# Altium integrated library Wuerth Elektronik SMD Power Choke.IntLib: 844 symbols (part 9 of 9)
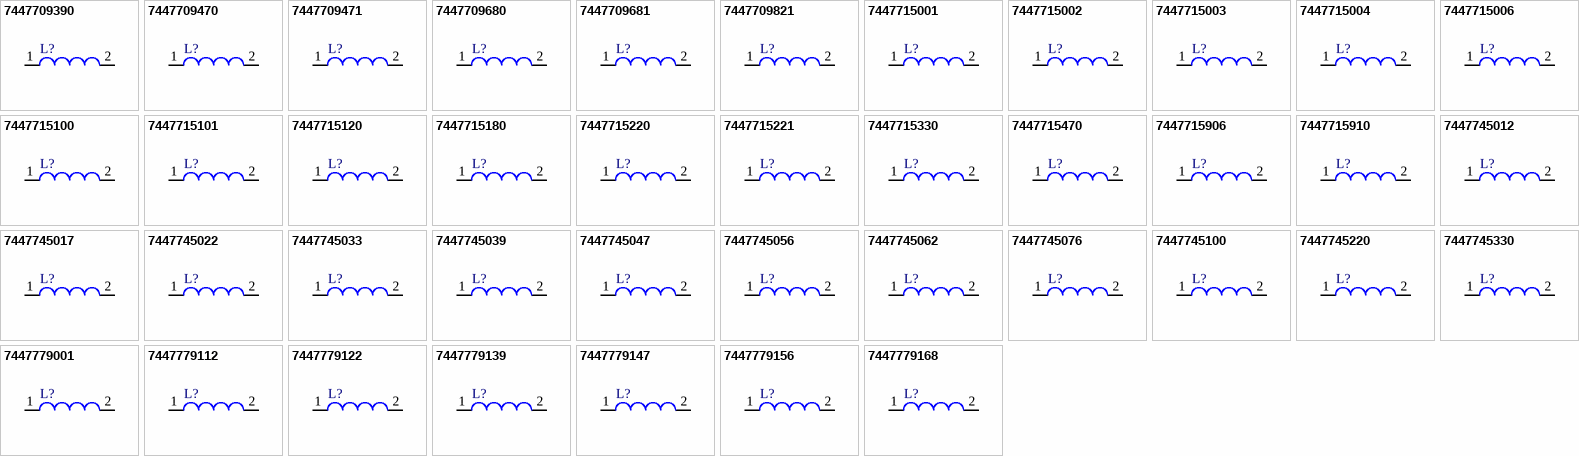
[diagram p30: symbols 7447709390 to 7447779168]

## 7447779147
designator L?
SMD-Shielded Power Inductor WE-PD, L = 47.0 µH; Inductance: 47.0 µH; DatasheetVersion: ver 10, Jan-2008; PackageVersion: 2008; PackageReference: WE-PD-M-PB; PackageDescription: SMD Inductor, 2-Leads, Body 7.3 x 7.3 mm; ComponentLink1Description: Manufacturer URL; ComponentLink1URL: http://www.we-online.com; ComponentLink2Description: Datasheet; ComponentLink2URL: http://www.we-online.de/katalog/media/pdf/7447779147.pdf
footprint WE-PD-M-PB (SMD Inductor, 2-Leads, Body 7.3x7.3x4.5 mm)
pins: 1, 2

## 7447779156
designator L?
SMD-Shielded Power Inductor WE-PD, L = 56.0 µH; Inductance: 56.0 µH; DatasheetVersion: ver 10, Jan-2008; PackageVersion: 2008; PackageReference: WE-PD-M-PB; PackageDescription: SMD Inductor, 2-Leads, Body 7.3 x 7.3 mm; ComponentLink1Description: Manufacturer URL; ComponentLink1URL: http://www.we-online.com; ComponentLink2Description: Datasheet; ComponentLink2URL: http://www.we-online.de/katalog/media/pdf/7447779156.pdf
footprint WE-PD-M-PB (SMD Inductor, 2-Leads, Body 7.3x7.3x4.5 mm)
pins: 1, 2

## 7447779168
designator L?
SMD-Shielded Power Inductor WE-PD, L = 68.0 µH; Inductance: 68.0 µH; DatasheetVersion: ver 10, Jan-2008; PackageVersion: 2008; PackageReference: WE-PD-M-PB; PackageDescription: SMD Inductor, 2-Leads, Body 7.3 x 7.3 mm; ComponentLink1Description: Manufacturer URL; ComponentLink1URL: http://www.we-online.com; ComponentLink2Description: Datasheet; ComponentLink2URL: http://www.we-online.de/katalog/media/pdf/7447779168.pdf
footprint WE-PD-M-PB (SMD Inductor, 2-Leads, Body 7.3x7.3x4.5 mm)
pins: 1, 2

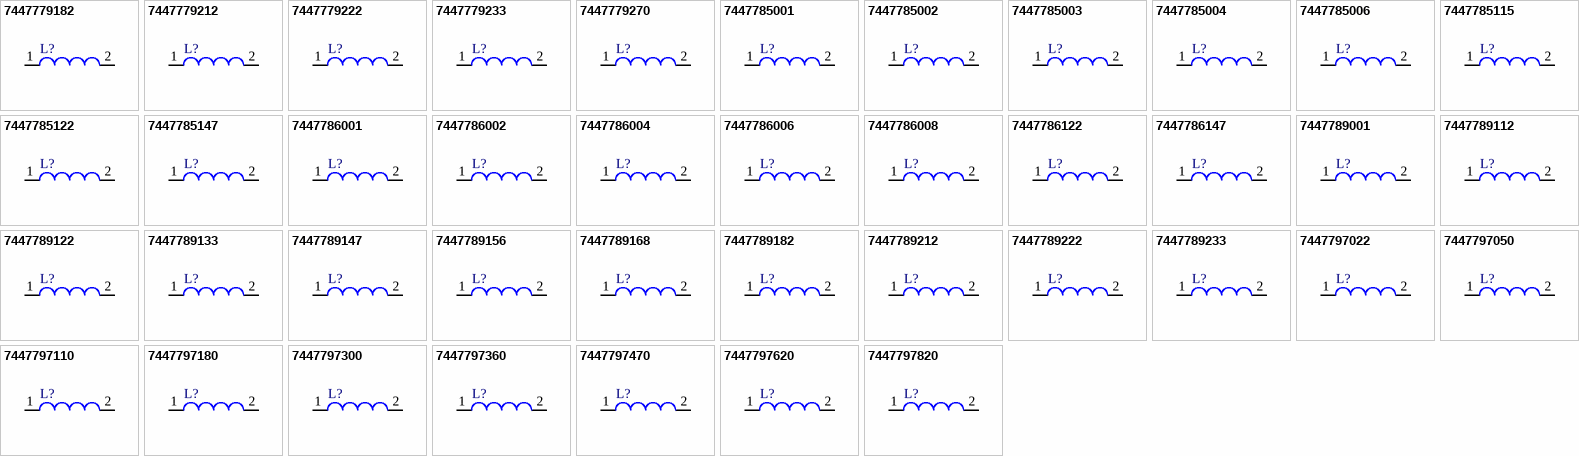
[diagram p20: symbols 7447779182 to 7447797820]

## 7447779182
designator L?
SMD-Shielded Power Inductor WE-PD, L = 82.0 µH; Inductance: 82.0 µH; DatasheetVersion: ver 10, Jan-2008; PackageVersion: 2008; PackageReference: WE-PD-M-PB; PackageDescription: SMD Inductor, 2-Leads, Body 7.3 x 7.3 mm; ComponentLink1Description: Manufacturer URL; ComponentLink1URL: http://www.we-online.com; ComponentLink2Description: Datasheet; ComponentLink2URL: http://www.we-online.de/katalog/media/pdf/7447779182.pdf
footprint WE-PD-M-PB (SMD Inductor, 2-Leads, Body 7.3x7.3x4.5 mm)
pins: 1, 2

## 7447779212
designator L?
SMD-Shielded Power Inductor WE-PD, L = 120 µH; Inductance: 120 µH; DatasheetVersion: ver 10, Jan-2008; PackageVersion: 2008; PackageReference: WE-PD-M-PB; PackageDescription: SMD Inductor, 2-Leads, Body 7.3 x 7.3 mm; ComponentLink1Description: Manufacturer URL; ComponentLink1URL: http://www.we-online.com; ComponentLink2Description: Datasheet; ComponentLink2URL: http://www.we-online.de/katalog/media/pdf/7447779212.pdf
footprint WE-PD-M-PB (SMD Inductor, 2-Leads, Body 7.3x7.3x4.5 mm)
pins: 1, 2

## 7447779222
designator L?
SMD-Shielded Power Inductor WE-PD, L = 220 µH; Inductance: 220 µH; DatasheetVersion: ver 10, Jan-2008; PackageVersion: 2008; PackageReference: WE-PD-M-PB; PackageDescription: SMD Inductor, 2-Leads, Body 7.3 x 7.3 mm; ComponentLink1Description: Manufacturer URL; ComponentLink1URL: http://www.we-online.com; ComponentLink2Description: Datasheet; ComponentLink2URL: http://www.we-online.de/katalog/media/pdf/7447779222.pdf
footprint WE-PD-M-PB (SMD Inductor, 2-Leads, Body 7.3x7.3x4.5 mm)
pins: 1, 2

## 7447779233
designator L?
SMD-Shielded Power Inductor WE-PD, L = 330 µH; Inductance: 330 µH; DatasheetVersion: ver 10, Jan-2008; PackageVersion: 2008; PackageReference: WE-PD-M-PB; PackageDescription: SMD Inductor, 2-Leads, Body 7.3 x 7.3 mm; ComponentLink1Description: Manufacturer URL; ComponentLink1URL: http://www.we-online.com; ComponentLink2Description: Datasheet; ComponentLink2URL: http://www.we-online.de/katalog/media/pdf/7447779233.pdf
footprint WE-PD-M-PB (SMD Inductor, 2-Leads, Body 7.3x7.3x4.5 mm)
pins: 1, 2

## 7447779270
designator L?
SMD-Shielded Power Inductor WE-PD, L = 270 µH; Inductance: 270 µH; DatasheetVersion: ver 10, Jan-2008; PackageVersion: 2008; PackageReference: WE-PD-M-PB; PackageDescription: SMD Inductor, 2-Leads, Body 7.3 x 7.3 mm; ComponentLink1Description: Manufacturer URL; ComponentLink1URL: http://www.we-online.com; ComponentLink2Description: Datasheet; ComponentLink2URL: http://www.we-online.de/katalog/media/pdf/7447779270.pdf
footprint WE-PD-M-PB (SMD Inductor, 2-Leads, Body 7.3x7.3x4.5 mm)
pins: 1, 2

## 7447785001
designator L?
SMD-Shielded Power Inductor WE-PD, L = 1.00 µH; Inductance: 1.00 µH; DatasheetVersion: ver 2, Oct-2004; PackageVersion: 2004; PackageReference: WE-PD-XS-PB; PackageDescription: SMD Inductor, 2-Leads, Body 5.9 x 6.2 mm; ComponentLink1Description: Manufacturer URL; ComponentLink1URL: http://www.we-online.com; ComponentLink2Description: Datasheet; ComponentLink2URL: http://www.we-online.de/katalog/media/pdf/7447785001.pdf
footprint WE-PD-XS-PB (SMD Inductor, 2-Leads, Body 5.9x6.2x3.3 mm)
pins: 1, 2

## 7447785002
designator L?
SMD-Shielded Power Inductor WE-PD, L = 2.20 µH; Inductance: 2.20 µH; DatasheetVersion: ver 2, Oct-2004; PackageVersion: 2004; PackageReference: WE-PD-XS-PB; PackageDescription: SMD Inductor, 2-Leads, Body 5.9 x 6.2 mm; ComponentLink1Description: Manufacturer URL; ComponentLink1URL: http://www.we-online.com; ComponentLink2Description: Datasheet; ComponentLink2URL: http://www.we-online.de/katalog/media/pdf/7447785002.pdf
footprint WE-PD-XS-PB (SMD Inductor, 2-Leads, Body 5.9x6.2x3.3 mm)
pins: 1, 2

## 7447785003
designator L?
SMD-Shielded Power Inductor WE-PD, L = 3.30 µH; Inductance: 3.30 µH; DatasheetVersion: ver 1, Nov-2005; PackageVersion: 2004; PackageReference: WE-PD-XS-PB; PackageDescription: SMD Inductor, 2-Leads, Body 5.9 x 6.2 mm; ComponentLink1Description: Manufacturer URL; ComponentLink1URL: http://www.we-online.com; ComponentLink2Description: Datasheet; ComponentLink2URL: http://www.we-online.de/katalog/media/pdf/7447785003.pdf
footprint WE-PD-XS-PB (SMD Inductor, 2-Leads, Body 5.9x6.2x3.3 mm)
pins: 1, 2

## 7447785004
designator L?
SMD-Shielded Power Inductor WE-PD, L = 4.70 µH; Inductance: 4.70 µH; DatasheetVersion: ver 2, Oct-2004; PackageVersion: 2004; PackageReference: WE-PD-XS-PB; PackageDescription: SMD Inductor, 2-Leads, Body 5.9 x 6.2 mm; ComponentLink1Description: Manufacturer URL; ComponentLink1URL: http://www.we-online.com; ComponentLink2Description: Datasheet; ComponentLink2URL: http://www.we-online.de/katalog/media/pdf/7447785004.pdf
footprint WE-PD-XS-PB (SMD Inductor, 2-Leads, Body 5.9x6.2x3.3 mm)
pins: 1, 2

## 7447785006
designator L?
SMD-Shielded Power Inductor WE-PD, L = 6.80 µH; Inductance: 6.80 µH; DatasheetVersion: ver 4, Sep-2005; PackageVersion: 2004; PackageReference: WE-PD-XS-PB; PackageDescription: SMD Inductor, 2-Leads, Body 5.9 x 6.2 mm; ComponentLink1Description: Manufacturer URL; ComponentLink1URL: http://www.we-online.com; ComponentLink2Description: Datasheet; ComponentLink2URL: http://www.we-online.de/katalog/media/pdf/7447785006.pdf
footprint WE-PD-XS-PB (SMD Inductor, 2-Leads, Body 5.9x6.2x3.3 mm)
pins: 1, 2

## 7447785115
designator L?
SMD-Shielded Power Inductor WE-PD, L = 15.0 µH; Inductance: 15.0 µH; DatasheetVersion: ver 1, Sep-2005; PackageVersion: 2004; PackageReference: WE-PD-XS-PB; PackageDescription: SMD Inductor, 2-Leads, Body 5.9 x 6.2 mm; ComponentLink1Description: Manufacturer URL; ComponentLink1URL: http://www.we-online.com; ComponentLink2Description: Datasheet; ComponentLink2URL: http://www.we-online.de/katalog/media/pdf/7447785115.pdf
footprint WE-PD-XS-PB (SMD Inductor, 2-Leads, Body 5.9x6.2x3.3 mm)
pins: 1, 2

## 7447785122
designator L?
SMD-Shielded Power Inductor WE-PD, L = 22.0 µH; Inductance: 22.0 µH; DatasheetVersion: ver 2, Oct-2004; PackageVersion: 2004; PackageReference: WE-PD-XS-PB; PackageDescription: SMD Inductor, 2-Leads, Body 5.9 x 6.2 mm; ComponentLink1Description: Manufacturer URL; ComponentLink1URL: http://www.we-online.com; ComponentLink2Description: Datasheet; ComponentLink2URL: http://www.we-online.de/katalog/media/pdf/7447785122.pdf
footprint WE-PD-XS-PB (SMD Inductor, 2-Leads, Body 5.9x6.2x3.3 mm)
pins: 1, 2

## 7447785147
designator L?
SMD-Shielded Power Inductor WE-PD, L = 47.0 µH; Inductance: 47.0 µH; DatasheetVersion: ver 2, Oct-2004; PackageVersion: 2004; PackageReference: WE-PD-XS-PB; PackageDescription: SMD Inductor, 2-Leads, Body 5.9 x 6.2 mm; ComponentLink1Description: Manufacturer URL; ComponentLink1URL: http://www.we-online.com; ComponentLink2Description: Datasheet; ComponentLink2URL: http://www.we-online.de/katalog/media/pdf/7447785147.pdf
footprint WE-PD-XS-PB (SMD Inductor, 2-Leads, Body 5.9x6.2x3.3 mm)
pins: 1, 2

## 7447786001
designator L?
SMD-Shielded Power Inductor WE-PD, L = 1.00 µH; Inductance: 1.00 µH; DatasheetVersion: ver 1, Sep-2008; PackageVersion: 2008; PackageReference: WE-PD-XSH-PB; PackageDescription: SMD Inductor, 2-Leads, Body 5.9 x 6.2 mm; ComponentLink1Description: Manufacturer URL; ComponentLink1URL: http://www.we-online.com; ComponentLink2Description: Datasheet; ComponentLink2URL: http://www.we-online.de/katalog/media/pdf/7447786001.pdf
footprint WE-PD-XSH-PB (SMD Inductor, 2-Leads, Body 5.9x6.2x5.1 mm)
pins: 1, 2

## 7447786002
designator L?
SMD-Shielded Power Inductor WE-PD, L = 2.20 µH; Inductance: 2.20 µH; DatasheetVersion: ver 1, Sep-2008; PackageVersion: 2008; PackageReference: WE-PD-XSH-PB; PackageDescription: SMD Inductor, 2-Leads, Body 5.9 x 6.2 mm; ComponentLink1Description: Manufacturer URL; ComponentLink1URL: http://www.we-online.com; ComponentLink2Description: Datasheet; ComponentLink2URL: http://www.we-online.de/katalog/media/pdf/7447786002.pdf
footprint WE-PD-XSH-PB (SMD Inductor, 2-Leads, Body 5.9x6.2x5.1 mm)
pins: 1, 2

## 7447786004
designator L?
SMD-Shielded Power Inductor WE-PD, L = 4.70 µH; Inductance: 4.70 µH; DatasheetVersion: ver 1, Sep-2008; PackageVersion: 2008; PackageReference: WE-PD-XSH-PB; PackageDescription: SMD Inductor, 2-Leads, Body 5.9 x 6.2 mm; ComponentLink1Description: Manufacturer URL; ComponentLink1URL: http://www.we-online.com; ComponentLink2Description: Datasheet; ComponentLink2URL: http://www.we-online.de/katalog/media/pdf/7447786004.pdf
footprint WE-PD-XSH-PB (SMD Inductor, 2-Leads, Body 5.9x6.2x5.1 mm)
pins: 1, 2

## 7447786006
designator L?
SMD-Shielded Power Inductor WE-PD, L = 6.80 µH; Inductance: 6.80 µH; DatasheetVersion: ver 1, Sep-2008; PackageVersion: 2008; PackageReference: WE-PD-XSH-PB; PackageDescription: SMD Inductor, 2-Leads, Body 5.9 x 6.2 mm; ComponentLink1Description: Manufacturer URL; ComponentLink1URL: http://www.we-online.com; ComponentLink2Description: Datasheet; ComponentLink2URL: http://www.we-online.de/katalog/media/pdf/7447786006.pdf
footprint WE-PD-XSH-PB (SMD Inductor, 2-Leads, Body 5.9x6.2x5.1 mm)
pins: 1, 2

## 7447786008
designator L?
SMD-Shielded Power Inductor WE-PD, L = 8.20 µH; Inductance: 8.20 µH; DatasheetVersion: ver 1, Sep-2008; PackageVersion: 2008; PackageReference: WE-PD-XSH-PB; PackageDescription: SMD Inductor, 2-Leads, Body 5.9 x 6.2 mm; ComponentLink1Description: Manufacturer URL; ComponentLink1URL: http://www.we-online.com; ComponentLink2Description: Datasheet; ComponentLink2URL: http://www.we-online.de/katalog/media/pdf/7447786008.pdf
footprint WE-PD-XSH-PB (SMD Inductor, 2-Leads, Body 5.9x6.2x5.1 mm)
pins: 1, 2

## 7447786122
designator L?
SMD-Shielded Power Inductor WE-PD, L = 22.0 µH; Inductance: 22.0 µH; DatasheetVersion: ver 1, Sep-2008; PackageVersion: 2008; PackageReference: WE-PD-XSH-PB; PackageDescription: SMD Inductor, 2-Leads, Body 5.9 x 6.2 mm; ComponentLink1Description: Manufacturer URL; ComponentLink1URL: http://www.we-online.com; ComponentLink2Description: Datasheet; ComponentLink2URL: http://www.we-online.de/katalog/media/pdf/7447786122.pdf
footprint WE-PD-XSH-PB (SMD Inductor, 2-Leads, Body 5.9x6.2x5.1 mm)
pins: 1, 2

## 7447786147
designator L?
SMD-Shielded Power Inductor WE-PD, L = 47.0 µH; Inductance: 47.0 µH; DatasheetVersion: ver 1, Sep-2008; PackageVersion: 2008; PackageReference: WE-PD-XSH-PB; PackageDescription: SMD Inductor, 2-Leads, Body 5.9 x 6.2 mm; ComponentLink1Description: Manufacturer URL; ComponentLink1URL: http://www.we-online.com; ComponentLink2Description: Datasheet; ComponentLink2URL: http://www.we-online.de/katalog/media/pdf/7447786147.pdf
footprint WE-PD-XSH-PB (SMD Inductor, 2-Leads, Body 5.9x6.2x5.1 mm)
pins: 1, 2

## 7447789001
designator L?
SMD-Shielded Power Inductor WE-PD, L = 1.00 µH; Inductance: 1.00 µH; DatasheetVersion: ver 5, Jan-2006; PackageVersion: 2006; PackageReference: WE-PD-S-PB; PackageDescription: SMD Inductor, 2-Leads, Body 7.3 x 7.3 mm; ComponentLink1Description: Manufacturer URL; ComponentLink1URL: http://www.we-online.com; ComponentLink2Description: Datasheet; ComponentLink2URL: http://www.we-online.de/katalog/media/pdf/7447789001.pdf
footprint WE-PD-S-PB (SMD Inductor, 2-Leads, Body 7.3x7.3x3.5 mm)
pins: 1, 2

## 7447789112
designator L?
SMD-Shielded Power Inductor WE-PD, L = 12.0 µH; Inductance: 12.0 µH; DatasheetVersion: ver 5, Jan-2006; PackageVersion: 2006; PackageReference: WE-PD-S-PB; PackageDescription: SMD Inductor, 2-Leads, Body 7.3 x 7.3 mm; ComponentLink1Description: Manufacturer URL; ComponentLink1URL: http://www.we-online.com; ComponentLink2Description: Datasheet; ComponentLink2URL: http://www.we-online.de/katalog/media/pdf/7447789112.pdf
footprint WE-PD-S-PB (SMD Inductor, 2-Leads, Body 7.3x7.3x3.5 mm)
pins: 1, 2

## 7447789122
designator L?
SMD-Shielded Power Inductor WE-PD, L = 22.0 µH; Inductance: 22.0 µH; DatasheetVersion: ver 5, Jan-2006; PackageVersion: 2006; PackageReference: WE-PD-S-PB; PackageDescription: SMD Inductor, 2-Leads, Body 7.3 x 7.3 mm; ComponentLink1Description: Manufacturer URL; ComponentLink1URL: http://www.we-online.com; ComponentLink2Description: Datasheet; ComponentLink2URL: http://www.we-online.de/katalog/media/pdf/7447789122.pdf
footprint WE-PD-S-PB (SMD Inductor, 2-Leads, Body 7.3x7.3x3.5 mm)
pins: 1, 2

## 7447789133
designator L?
SMD-Shielded Power Inductor WE-PD, L = 33.0 µH; Inductance: 33.0 µH; DatasheetVersion: ver 5, Jan-2006; PackageVersion: 2006; PackageReference: WE-PD-S-PB; PackageDescription: SMD Inductor, 2-Leads, Body 7.3 x 7.3 mm; ComponentLink1Description: Manufacturer URL; ComponentLink1URL: http://www.we-online.com; ComponentLink2Description: Datasheet; ComponentLink2URL: http://www.we-online.de/katalog/media/pdf/7447789133.pdf
footprint WE-PD-S-PB (SMD Inductor, 2-Leads, Body 7.3x7.3x3.5 mm)
pins: 1, 2

## 7447789147
designator L?
SMD-Shielded Power Inductor WE-PD, L = 47.0 µH; Inductance: 47.0 µH; DatasheetVersion: ver 5, Jan-2006; PackageVersion: 2006; PackageReference: WE-PD-S-PB; PackageDescription: SMD Inductor, 2-Leads, Body 7.3 x 7.3 mm; ComponentLink1Description: Manufacturer URL; ComponentLink1URL: http://www.we-online.com; ComponentLink2Description: Datasheet; ComponentLink2URL: http://www.we-online.de/katalog/media/pdf/7447789147.pdf
footprint WE-PD-S-PB (SMD Inductor, 2-Leads, Body 7.3x7.3x3.5 mm)
pins: 1, 2

## 7447789156
designator L?
SMD-Shielded Power Inductor WE-PD, L = 56.0 µH; Inductance: 56.0 µH; DatasheetVersion: ver 5, Jan-2006; PackageVersion: 2006; PackageReference: WE-PD-S-PB; PackageDescription: SMD Inductor, 2-Leads, Body 7.3 x 7.3 mm; ComponentLink1Description: Manufacturer URL; ComponentLink1URL: http://www.we-online.com; ComponentLink2Description: Datasheet; ComponentLink2URL: http://www.we-online.de/katalog/media/pdf/7447789156.pdf
footprint WE-PD-S-PB (SMD Inductor, 2-Leads, Body 7.3x7.3x3.5 mm)
pins: 1, 2

## 7447789168
designator L?
SMD-Shielded Power Inductor WE-PD, L = 68.0 µH; Inductance: 68.0 µH; DatasheetVersion: ver 5, Jan-2006; PackageVersion: 2006; PackageReference: WE-PD-S-PB; PackageDescription: SMD Inductor, 2-Leads, Body 7.3 x 7.3 mm; ComponentLink1Description: Manufacturer URL; ComponentLink1URL: http://www.we-online.com; ComponentLink2Description: Datasheet; ComponentLink2URL: http://www.we-online.de/katalog/media/pdf/7447789168.pdf
footprint WE-PD-S-PB (SMD Inductor, 2-Leads, Body 7.3x7.3x3.5 mm)
pins: 1, 2

## 7447789182
designator L?
SMD-Shielded Power Inductor WE-PD, L = 82.0 µH; Inductance: 82.0 µH; DatasheetVersion: ver 5, Jan-2006; PackageVersion: 2006; PackageReference: WE-PD-S-PB; PackageDescription: SMD Inductor, 2-Leads, Body 7.3 x 7.3 mm; ComponentLink1Description: Manufacturer URL; ComponentLink1URL: http://www.we-online.com; ComponentLink2Description: Datasheet; ComponentLink2URL: http://www.we-online.de/katalog/media/pdf/7447789182.pdf
footprint WE-PD-S-PB (SMD Inductor, 2-Leads, Body 7.3x7.3x3.5 mm)
pins: 1, 2

## 7447789212
designator L?
SMD-Shielded Power Inductor WE-PD, L = 120 µH; Inductance: 120 µH; DatasheetVersion: ver 5, Jan-2006; PackageVersion: 2006; PackageReference: WE-PD-S-PB; PackageDescription: SMD Inductor, 2-Leads, Body 7.3 x 7.3 mm; ComponentLink1Description: Manufacturer URL; ComponentLink1URL: http://www.we-online.com; ComponentLink2Description: Datasheet; ComponentLink2URL: http://www.we-online.de/katalog/media/pdf/7447789212.pdf
footprint WE-PD-S-PB (SMD Inductor, 2-Leads, Body 7.3x7.3x3.5 mm)
pins: 1, 2

## 7447789222
designator L?
SMD-Shielded Power Inductor WE-PD, L = 220 µH; Inductance: 220 µH; DatasheetVersion: ver 5, Jan-2006; PackageVersion: 2006; PackageReference: WE-PD-S-PB; PackageDescription: SMD Inductor, 2-Leads, Body 7.3 x 7.3 mm; ComponentLink1Description: Manufacturer URL; ComponentLink1URL: http://www.we-online.com; ComponentLink2Description: Datasheet; ComponentLink2URL: http://www.we-online.de/katalog/media/pdf/7447789222.pdf
footprint WE-PD-S-PB (SMD Inductor, 2-Leads, Body 7.3x7.3x3.5 mm)
pins: 1, 2

## 7447789233
designator L?
SMD-Shielded Power Inductor WE-PD, L = 330 µH; Inductance: 330 µH; DatasheetVersion: ver 5, Jan-2006; PackageVersion: 2006; PackageReference: WE-PD-S-PB; PackageDescription: SMD Inductor, 2-Leads, Body 7.3 x 7.3 mm; ComponentLink1Description: Manufacturer URL; ComponentLink1URL: http://www.we-online.com; ComponentLink2Description: Datasheet; ComponentLink2URL: http://www.we-online.de/katalog/media/pdf/7447789233.pdf
footprint WE-PD-S-PB (SMD Inductor, 2-Leads, Body 7.3x7.3x3.5 mm)
pins: 1, 2

## 7447797022
designator L?
SMD Power Inductor WE-PDF, L = 0.22 µH; Inductance: 0.22 µH; DatasheetVersion: ver 2, Jul-2009; PackageVersion: 2009; PackageReference: WE-PDF-1045; PackageDescription: SMD Inductor, 2-Leads, Body 10.2 x 10.2 mm; ComponentLink1Description: Manufacturer URL; ComponentLink1URL: http://www.we-online.com; ComponentLink2Description: Datasheet; ComponentLink2URL: http://www.we-online.de/katalog/media/pdf/7447797022.pdf
footprint WE-PDF-1045 (SMD Inductor, 2-Leads, Body 10.2x10.2x4.5 mm)
pins: 1, 2

## 7447797050
designator L?
SMD Power Inductor WE-PDF, L = 0.50 µH; Inductance: 0.50 µH; DatasheetVersion: ver 2, Jul-2009; PackageVersion: 2009; PackageReference: WE-PDF-1045; PackageDescription: SMD Inductor, 2-Leads, Body 10.2 x 10.2 mm; ComponentLink1Description: Manufacturer URL; ComponentLink1URL: http://www.we-online.com; ComponentLink2Description: Datasheet; ComponentLink2URL: http://www.we-online.de/katalog/media/pdf/7447797050.pdf
footprint WE-PDF-1045 (SMD Inductor, 2-Leads, Body 10.2x10.2x4.5 mm)
pins: 1, 2

## 7447797110
designator L?
SMD Power Inductor WE-PDF, L = 1.10 µH; Inductance: 1.10 µH; DatasheetVersion: ver 2, Jul-2009; PackageVersion: 2009; PackageReference: WE-PDF-1045; PackageDescription: SMD Inductor, 2-Leads, Body 10.2 x 10.2 mm; ComponentLink1Description: Manufacturer URL; ComponentLink1URL: http://www.we-online.com; ComponentLink2Description: Datasheet; ComponentLink2URL: http://www.we-online.de/katalog/media/pdf/7447797110.pdf
footprint WE-PDF-1045 (SMD Inductor, 2-Leads, Body 10.2x10.2x4.5 mm)
pins: 1, 2

## 7447797180
designator L?
SMD Power Inductor WE-PDF, L = 1.80 µH; Inductance: 1.80 µH; DatasheetVersion: ver 2, Jul-2009; PackageVersion: 2009; PackageReference: WE-PDF-1045; PackageDescription: SMD Inductor, 2-Leads, Body 10.2 x 10.2 mm; ComponentLink1Description: Manufacturer URL; ComponentLink1URL: http://www.we-online.com; ComponentLink2Description: Datasheet; ComponentLink2URL: http://www.we-online.de/katalog/media/pdf/7447797180.pdf
footprint WE-PDF-1045 (SMD Inductor, 2-Leads, Body 10.2x10.2x4.5 mm)
pins: 1, 2

## 7447797300
designator L?
SMD Power Inductor WE-PDF, L = 3.00 µH; Inductance: 3.00 µH; DatasheetVersion: ver 2, Jul-2009; PackageVersion: 2009; PackageReference: WE-PDF-1045; PackageDescription: SMD Inductor, 2-Leads, Body 10.2 x 10.2 mm; ComponentLink1Description: Manufacturer URL; ComponentLink1URL: http://www.we-online.com; ComponentLink2Description: Datasheet; ComponentLink2URL: http://www.we-online.de/katalog/media/pdf/7447797300.pdf
footprint WE-PDF-1045 (SMD Inductor, 2-Leads, Body 10.2x10.2x4.5 mm)
pins: 1, 2

## 7447797360
designator L?
SMD Power Inductor WE-PDF, L = 3.60 µH; Inductance: 3.60 µH; DatasheetVersion: ver 2, Jul-2009; PackageVersion: 2009; PackageReference: WE-PDF-1045; PackageDescription: SMD Inductor, 2-Leads, Body 10.2 x 10.2 mm; ComponentLink1Description: Manufacturer URL; ComponentLink1URL: http://www.we-online.com; ComponentLink2Description: Datasheet; ComponentLink2URL: http://www.we-online.de/katalog/media/pdf/7447797360.pdf
footprint WE-PDF-1045 (SMD Inductor, 2-Leads, Body 10.2x10.2x4.5 mm)
pins: 1, 2

## 7447797470
designator L?
SMD Power Inductor WE-PDF, L = 4.70 µH; Inductance: 4.70 µH; DatasheetVersion: ver 2, Jul-2009; PackageVersion: 2009; PackageReference: WE-PDF-1045; PackageDescription: SMD Inductor, 2-Leads, Body 10.2 x 10.2 mm; ComponentLink1Description: Manufacturer URL; ComponentLink1URL: http://www.we-online.com; ComponentLink2Description: Datasheet; ComponentLink2URL: http://www.we-online.de/katalog/media/pdf/7447797470.pdf
footprint WE-PDF-1045 (SMD Inductor, 2-Leads, Body 10.2x10.2x4.5 mm)
pins: 1, 2

## 7447797620
designator L?
SMD Power Inductor WE-PDF, L = 6.20 µH; Inductance: 6.20 µH; DatasheetVersion: ver 2, Jul-2009; PackageVersion: 2009; PackageReference: WE-PDF-1045; PackageDescription: SMD Inductor, 2-Leads, Body 10.2 x 10.2 mm; ComponentLink1Description: Manufacturer URL; ComponentLink1URL: http://www.we-online.com; ComponentLink2Description: Datasheet; ComponentLink2URL: http://www.we-online.de/katalog/media/pdf/7447797620.pdf
footprint WE-PDF-1045 (SMD Inductor, 2-Leads, Body 10.2x10.2x4.5 mm)
pins: 1, 2

## 7447797820
designator L?
SMD Power Inductor WE-PDF, L = 8.20 µH; Inductance: 8.20 µH; DatasheetVersion: ver 2, Jul-2009; PackageVersion: 2009; PackageReference: WE-PDF-1045; PackageDescription: SMD Inductor, 2-Leads, Body 10.2 x 10.2 mm; ComponentLink1Description: Manufacturer URL; ComponentLink1URL: http://www.we-online.com; ComponentLink2Description: Datasheet; ComponentLink2URL: http://www.we-online.de/katalog/media/pdf/7447797820.pdf
footprint WE-PDF-1045 (SMD Inductor, 2-Leads, Body 10.2x10.2x4.5 mm)
pins: 1, 2

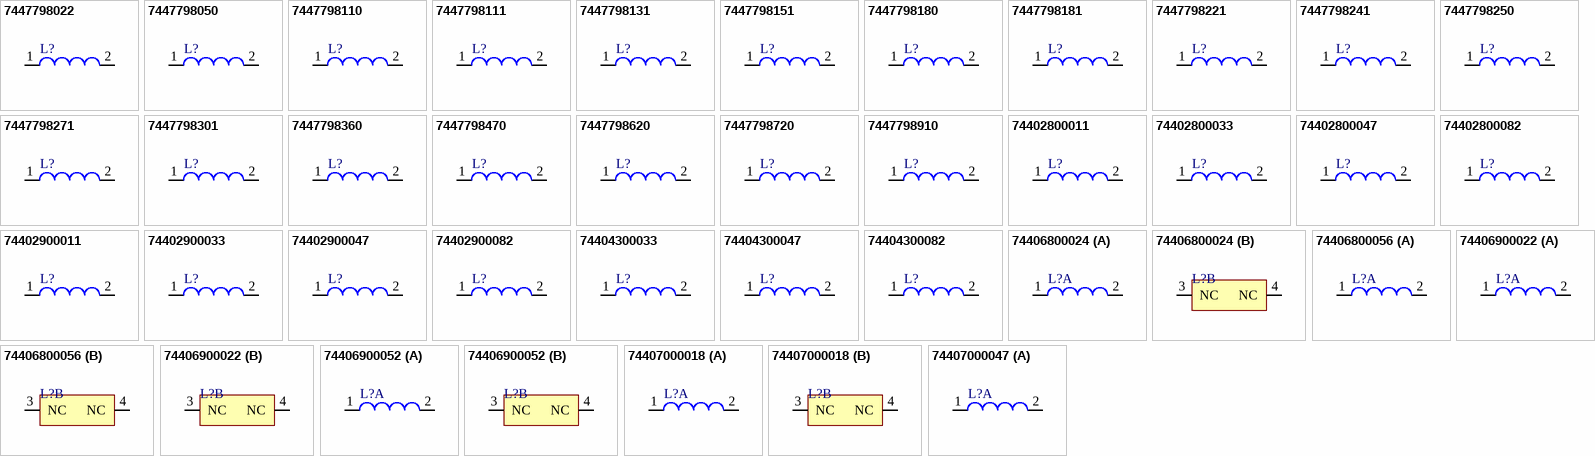
[diagram p21: symbols 7447798022 to 74407000047]

## 7447798022
designator L?
SMD Power Inductor WE-PDF, L = 0.22 µH; Inductance: 0.22 µH; DatasheetVersion: ver 1, Dec-2009; PackageVersion: 2009; PackageReference: WE-PDF-1064; PackageDescription: SMD Inductor, 2-Leads, Body 10.2 x 10.2 mm; ComponentLink1Description: Manufacturer URL; ComponentLink1URL: http://www.we-online.com; ComponentLink2Description: Datasheet; ComponentLink2URL: http://www.we-online.de/katalog/media/pdf/7447798022.pdf
footprint WE-PDF-1064 (SMD Inductor, 2-Leads, Body 10.2x10.2x6.4 mm)
pins: 1, 2

## 7447798050
designator L?
SMD Power Inductor WE-PDF, L = 0.50 µH; Inductance: 0.50 µH; DatasheetVersion: ver 1, Dec-2009; PackageVersion: 2009; PackageReference: WE-PDF-1064; PackageDescription: SMD Inductor, 2-Leads, Body 10.2 x 10.2 mm; ComponentLink1Description: Manufacturer URL; ComponentLink1URL: http://www.we-online.com; ComponentLink2Description: Datasheet; ComponentLink2URL: http://www.we-online.de/katalog/media/pdf/7447798050.pdf
footprint WE-PDF-1064 (SMD Inductor, 2-Leads, Body 10.2x10.2x6.4 mm)
pins: 1, 2

## 7447798110
designator L?
SMD Power Inductor WE-PDF, L = 1.10 µH; Inductance: 1.10 µH; DatasheetVersion: ver 1, Dec-2009; PackageVersion: 2009; PackageReference: WE-PDF-1064; PackageDescription: SMD Inductor, 2-Leads, Body 10.2 x 10.2 mm; ComponentLink1Description: Manufacturer URL; ComponentLink1URL: http://www.we-online.com; ComponentLink2Description: Datasheet; ComponentLink2URL: http://www.we-online.de/katalog/media/pdf/7447798110.pdf
footprint WE-PDF-1064 (SMD Inductor, 2-Leads, Body 10.2x10.2x6.4 mm)
pins: 1, 2

## 7447798111
designator L?
SMD Power Inductor WE-PDF, L = 11.0 µH; Inductance: 11.0 µH; DatasheetVersion: ver 1, Dec-2009; PackageVersion: 2009; PackageReference: WE-PDF-1064; PackageDescription: SMD Inductor, 2-Leads, Body 10.2 x 10.2 mm; ComponentLink1Description: Manufacturer URL; ComponentLink1URL: http://www.we-online.com; ComponentLink2Description: Datasheet; ComponentLink2URL: http://www.we-online.de/katalog/media/pdf/7447798111.pdf
footprint WE-PDF-1064 (SMD Inductor, 2-Leads, Body 10.2x10.2x6.4 mm)
pins: 1, 2

## 7447798131
designator L?
SMD Power Inductor WE-PDF, L = 13.0 µH; Inductance: 13.0 µH; DatasheetVersion: ver 1, Dec-2009; PackageVersion: 2009; PackageReference: WE-PDF-1064; PackageDescription: SMD Inductor, 2-Leads, Body 10.2 x 10.2 mm; ComponentLink1Description: Manufacturer URL; ComponentLink1URL: http://www.we-online.com; ComponentLink2Description: Datasheet; ComponentLink2URL: http://www.we-online.de/katalog/media/pdf/7447798131.pdf
footprint WE-PDF-1064 (SMD Inductor, 2-Leads, Body 10.2x10.2x6.4 mm)
pins: 1, 2

## 7447798151
designator L?
SMD Power Inductor WE-PDF, L = 15.0 µH; Inductance: 15.0 µH; DatasheetVersion: ver 1, Dec-2009; PackageVersion: 2009; PackageReference: WE-PDF-1064; PackageDescription: SMD Inductor, 2-Leads, Body 10.2 x 10.2 mm; ComponentLink1Description: Manufacturer URL; ComponentLink1URL: http://www.we-online.com; ComponentLink2Description: Datasheet; ComponentLink2URL: http://www.we-online.de/katalog/media/pdf/7447798151.pdf
footprint WE-PDF-1064 (SMD Inductor, 2-Leads, Body 10.2x10.2x6.4 mm)
pins: 1, 2

## 7447798180
designator L?
SMD Power Inductor WE-PDF, L = 1.80 µH; Inductance: 1.80 µH; DatasheetVersion: ver 1, Dec-2009; PackageVersion: 2009; PackageReference: WE-PDF-1064; PackageDescription: SMD Inductor, 2-Leads, Body 10.2 x 10.2 mm; ComponentLink1Description: Manufacturer URL; ComponentLink1URL: http://www.we-online.com; ComponentLink2Description: Datasheet; ComponentLink2URL: http://www.we-online.de/katalog/media/pdf/7447798180.pdf
footprint WE-PDF-1064 (SMD Inductor, 2-Leads, Body 10.2x10.2x6.4 mm)
pins: 1, 2

## 7447798181
designator L?
SMD Power Inductor WE-PDF, L = 18.0 µH; Inductance: 18.0 µH; DatasheetVersion: ver 1, Dec-2009; PackageVersion: 2009; PackageReference: WE-PDF-1064; PackageDescription: SMD Inductor, 2-Leads, Body 10.2 x 10.2 mm; ComponentLink1Description: Manufacturer URL; ComponentLink1URL: http://www.we-online.com; ComponentLink2Description: Datasheet; ComponentLink2URL: http://www.we-online.de/katalog/media/pdf/7447798181.pdf
footprint WE-PDF-1064 (SMD Inductor, 2-Leads, Body 10.2x10.2x6.4 mm)
pins: 1, 2

## 7447798221
designator L?
SMD Power Inductor WE-PDF, L = 22.0 µH; Inductance: 22.0 µH; DatasheetVersion: ver 1, Dec-2009; PackageVersion: 2009; PackageReference: WE-PDF-1064; PackageDescription: SMD Inductor, 2-Leads, Body 10.2 x 10.2 mm; ComponentLink1Description: Manufacturer URL; ComponentLink1URL: http://www.we-online.com; ComponentLink2Description: Datasheet; ComponentLink2URL: http://www.we-online.de/katalog/media/pdf/7447798221.pdf
footprint WE-PDF-1064 (SMD Inductor, 2-Leads, Body 10.2x10.2x6.4 mm)
pins: 1, 2

## 7447798241
designator L?
SMD Power Inductor WE-PDF, L = 24.0 µH; Inductance: 24.0 µH; DatasheetVersion: ver 1, Dec-2009; PackageVersion: 2009; PackageReference: WE-PDF-1064; PackageDescription: SMD Inductor, 2-Leads, Body 10.2 x 10.2 mm; ComponentLink1Description: Manufacturer URL; ComponentLink1URL: http://www.we-online.com; ComponentLink2Description: Datasheet; ComponentLink2URL: http://www.we-online.de/katalog/media/pdf/7447798241.pdf
footprint WE-PDF-1064 (SMD Inductor, 2-Leads, Body 10.2x10.2x6.4 mm)
pins: 1, 2

## 7447798250
designator L?
SMD Power Inductor WE-PDF, L = 2.50 µH; Inductance: 2.50 µH; DatasheetVersion: ver 1, Dec-2009; PackageVersion: 2009; PackageReference: WE-PDF-1064; PackageDescription: SMD Inductor, 2-Leads, Body 10.2 x 10.2 mm; ComponentLink1Description: Manufacturer URL; ComponentLink1URL: http://www.we-online.com; ComponentLink2Description: Datasheet; ComponentLink2URL: http://www.we-online.de/katalog/media/pdf/7447798250.pdf
footprint WE-PDF-1064 (SMD Inductor, 2-Leads, Body 10.2x10.2x6.4 mm)
pins: 1, 2

## 7447798271
designator L?
SMD Power Inductor WE-PDF, L = 27.0 µH; Inductance: 27.0 µH; DatasheetVersion: ver 1, Dec-2009; PackageVersion: 2009; PackageReference: WE-PDF-1064; PackageDescription: SMD Inductor, 2-Leads, Body 10.2 x 10.2 mm; ComponentLink1Description: Manufacturer URL; ComponentLink1URL: http://www.we-online.com; ComponentLink2Description: Datasheet; ComponentLink2URL: http://www.we-online.de/katalog/media/pdf/7447798271.pdf
footprint WE-PDF-1064 (SMD Inductor, 2-Leads, Body 10.2x10.2x6.4 mm)
pins: 1, 2

## 7447798301
designator L?
SMD Power Inductor WE-PDF, L = 30.0 µH; Inductance: 30.0 µH; DatasheetVersion: ver 1, Dec-2009; PackageVersion: 2009; PackageReference: WE-PDF-1064; PackageDescription: SMD Inductor, 2-Leads, Body 10.2 x 10.2 mm; ComponentLink1Description: Manufacturer URL; ComponentLink1URL: http://www.we-online.com; ComponentLink2Description: Datasheet; ComponentLink2URL: http://www.we-online.de/katalog/media/pdf/7447798301.pdf
footprint WE-PDF-1064 (SMD Inductor, 2-Leads, Body 10.2x10.2x6.4 mm)
pins: 1, 2

## 7447798360
designator L?
SMD Power Inductor WE-PDF, L = 3.60 µH; Inductance: 3.60 µH; DatasheetVersion: ver 1, Dec-2009; PackageVersion: 2009; PackageReference: WE-PDF-1064; PackageDescription: SMD Inductor, 2-Leads, Body 10.2 x 10.2 mm; ComponentLink1Description: Manufacturer URL; ComponentLink1URL: http://www.we-online.com; ComponentLink2Description: Datasheet; ComponentLink2URL: http://www.we-online.de/katalog/media/pdf/7447798360.pdf
footprint WE-PDF-1064 (SMD Inductor, 2-Leads, Body 10.2x10.2x6.4 mm)
pins: 1, 2

## 7447798470
designator L?
SMD Power Inductor WE-PDF, L = 4.70 µH; Inductance: 4.70 µH; DatasheetVersion: ver 1, Dec-2009; PackageVersion: 2009; PackageReference: WE-PDF-1064; PackageDescription: SMD Inductor, 2-Leads, Body 10.2 x 10.2 mm; ComponentLink1Description: Manufacturer URL; ComponentLink1URL: http://www.we-online.com; ComponentLink2Description: Datasheet; ComponentLink2URL: http://www.we-online.de/katalog/media/pdf/7447798470.pdf
footprint WE-PDF-1064 (SMD Inductor, 2-Leads, Body 10.2x10.2x6.4 mm)
pins: 1, 2

## 7447798620
designator L?
SMD Power Inductor WE-PDF, L = 6.20 µH; Inductance: 6.20 µH; DatasheetVersion: ver 1, Dec-2009; PackageVersion: 2009; PackageReference: WE-PDF-1064; PackageDescription: SMD Inductor, 2-Leads, Body 10.2 x 10.2 mm; ComponentLink1Description: Manufacturer URL; ComponentLink1URL: http://www.we-online.com; ComponentLink2Description: Datasheet; ComponentLink2URL: http://www.we-online.de/katalog/media/pdf/7447798620.pdf
footprint WE-PDF-1064 (SMD Inductor, 2-Leads, Body 10.2x10.2x6.4 mm)
pins: 1, 2

## 7447798720
designator L?
SMD Power Inductor WE-PDF, L = 7.20 µH; Inductance: 7.20 µH; DatasheetVersion: ver 1, Dec-2009; PackageVersion: 2009; PackageReference: WE-PDF-1064; PackageDescription: SMD Inductor, 2-Leads, Body 10.2 x 10.2 mm; ComponentLink1Description: Manufacturer URL; ComponentLink1URL: http://www.we-online.com; ComponentLink2Description: Datasheet; ComponentLink2URL: http://www.we-online.de/katalog/media/pdf/7447798720.pdf
footprint WE-PDF-1064 (SMD Inductor, 2-Leads, Body 10.2x10.2x6.4 mm)
pins: 1, 2

## 7447798910
designator L?
SMD Power Inductor WE-PDF, L = 9.10 µH; Inductance: 9.10 µH; DatasheetVersion: ver 1, Dec-2009; PackageVersion: 2009; PackageReference: WE-PDF-1064; PackageDescription: SMD Inductor, 2-Leads, Body 10.2 x 10.2 mm; ComponentLink1Description: Manufacturer URL; ComponentLink1URL: http://www.we-online.com; ComponentLink2Description: Datasheet; ComponentLink2URL: http://www.we-online.de/katalog/media/pdf/7447798910.pdf
footprint WE-PDF-1064 (SMD Inductor, 2-Leads, Body 10.2x10.2x6.4 mm)
pins: 1, 2

## 74402800011
designator L?
SMD Shielded Tiny Power Inductor WE-TPC, L = 0.11 µH; Inductance: 0.11 µH; DatasheetVersion: ver 3, Oct-2010; PackageVersion: 2010; PackageReference: WE-TPC-2811-T; PackageDescription: SMD Inductor, 2-Leads, Body 2.8 x 2.8 mm; ComponentLink1Description: Manufacturer URL; ComponentLink1URL: http://www.we-online.com; ComponentLink2Description: Datasheet; ComponentLink2URL: http://www.we-online.de/katalog/media/pdf/74402800011.pdf
footprint WE-TPC-2811-T (SMD Inductor, 2-Leads, Body 2.8x2.8x1.2 mm)
pins: 1, 2

## 74402800033
designator L?
SMD Shielded Tiny Power Inductor WE-TPC, L = 0.33 µH; Inductance: 0.33 µH; DatasheetVersion: ver 3, Oct-2010; PackageVersion: 2010; PackageReference: WE-TPC-2811-T; PackageDescription: SMD Inductor, 2-Leads, Body 2.8 x 2.8 mm; ComponentLink1Description: Manufacturer URL; ComponentLink1URL: http://www.we-online.com; ComponentLink2Description: Datasheet; ComponentLink2URL: http://www.we-online.de/katalog/media/pdf/74402800033.pdf
footprint WE-TPC-2811-T (SMD Inductor, 2-Leads, Body 2.8x2.8x1.2 mm)
pins: 1, 2

## 74402800047
designator L?
SMD Shielded Tiny Power Inductor WE-TPC, L = 0.47 µH; Inductance: 0.47 µH; DatasheetVersion: ver 3, Oct-2010; PackageVersion: 2010; PackageReference: WE-TPC-2811-T; PackageDescription: SMD Inductor, 2-Leads, Body 2.8 x 2.8 mm; ComponentLink1Description: Manufacturer URL; ComponentLink1URL: http://www.we-online.com; ComponentLink2Description: Datasheet; ComponentLink2URL: http://www.we-online.de/katalog/media/pdf/74402800047.pdf
footprint WE-TPC-2811-T (SMD Inductor, 2-Leads, Body 2.8x2.8x1.2 mm)
pins: 1, 2

## 74402800082
designator L?
SMD Shielded Tiny Power Inductor WE-TPC, L = 0.82 µH; Inductance: 0.82 µH; DatasheetVersion: ver 3, Oct-2010; PackageVersion: 2010; PackageReference: WE-TPC-2811-T; PackageDescription: SMD Inductor, 2-Leads, Body 2.8 x 2.8 mm; ComponentLink1Description: Manufacturer URL; ComponentLink1URL: http://www.we-online.com; ComponentLink2Description: Datasheet; ComponentLink2URL: http://www.we-online.de/katalog/media/pdf/74402800082.pdf
footprint WE-TPC-2811-T (SMD Inductor, 2-Leads, Body 2.8x2.8x1.2 mm)
pins: 1, 2

## 74402900011
designator L?
SMD Shielded Tiny Power Inductor WE-TPC, L = 0.11 µH; Inductance: 0.11 µH; DatasheetVersion: ver 3, Oct-2010; PackageVersion: 2010; PackageReference: WE-TPC-2813-TH; PackageDescription: SMD Inductor, 2-Leads, Body 2.8 x 2.8 mm; ComponentLink1Description: Manufacturer URL; ComponentLink1URL: http://www.we-online.com; ComponentLink2Description: Datasheet; ComponentLink2URL: http://www.we-online.de/katalog/media/pdf/74402900011.pdf
footprint WE-TPC-2813-TH (SMD Inductor, 2-Leads, Body 2.8x2.8x1.5 mm)
pins: 1, 2

## 74402900033
designator L?
SMD Shielded Tiny Power Inductor WE-TPC, L = 0.33 µH; Inductance: 0.33 µH; DatasheetVersion: ver 3, Oct-2010; PackageVersion: 2010; PackageReference: WE-TPC-2813-TH; PackageDescription: SMD Inductor, 2-Leads, Body 2.8 x 2.8 mm; ComponentLink1Description: Manufacturer URL; ComponentLink1URL: http://www.we-online.com; ComponentLink2Description: Datasheet; ComponentLink2URL: http://www.we-online.de/katalog/media/pdf/74402900033.pdf
footprint WE-TPC-2813-TH (SMD Inductor, 2-Leads, Body 2.8x2.8x1.5 mm)
pins: 1, 2

## 74402900047
designator L?
SMD Shielded Tiny Power Inductor WE-TPC, L = 0.47 µH; Inductance: 0.47 µH; DatasheetVersion: ver 3, Oct-2010; PackageVersion: 2010; PackageReference: WE-TPC-2813-TH; PackageDescription: SMD Inductor, 2-Leads, Body 2.8 x 2.8 mm; ComponentLink1Description: Manufacturer URL; ComponentLink1URL: http://www.we-online.com; ComponentLink2Description: Datasheet; ComponentLink2URL: http://www.we-online.de/katalog/media/pdf/74402900047.pdf
footprint WE-TPC-2813-TH (SMD Inductor, 2-Leads, Body 2.8x2.8x1.5 mm)
pins: 1, 2

## 74402900082
designator L?
SMD Shielded Tiny Power Inductor WE-TPC, L = 0.82 µH; Inductance: 0.82 µH; DatasheetVersion: ver 3, Oct-2010; PackageVersion: 2010; PackageReference: WE-TPC-2813-TH; PackageDescription: SMD Inductor, 2-Leads, Body 2.8 x 2.8 mm; ComponentLink1Description: Manufacturer URL; ComponentLink1URL: http://www.we-online.com; ComponentLink2Description: Datasheet; ComponentLink2URL: http://www.we-online.de/katalog/media/pdf/74402900082.pdf
footprint WE-TPC-2813-TH (SMD Inductor, 2-Leads, Body 2.8x2.8x1.5 mm)
pins: 1, 2

## 74404300033
designator L?
SMD Shielded Tiny Power Inductor WE-TPC, L = 0.33 µH; Inductance: 0.33 µH; DatasheetVersion: ver 6, Aug-2010; PackageVersion: 2010; PackageReference: WE-TPC-4828-MH; PackageDescription: SMD Inductor, 2-Leads, Body 4.8 x 4.8 mm; ComponentLink1Description: Manufacturer URL; ComponentLink1URL: http://www.we-online.com; ComponentLink2Description: Datasheet; ComponentLink2URL: http://www.we-online.de/katalog/media/pdf/74404300033.pdf
footprint WE-TPC-4828-MH (SMD Inductor, 2-Leads, Body 4.8x4.8x3.0 mm)
pins: 1, 2

## 74404300047
designator L?
SMD Shielded Tiny Power Inductor WE-TPC, L = 0.47 µH; Inductance: 0.47 µH; DatasheetVersion: ver 6, Aug-2010; PackageVersion: 2010; PackageReference: WE-TPC-4828-MH; PackageDescription: SMD Inductor, 2-Leads, Body 4.8 x 4.8 mm; ComponentLink1Description: Manufacturer URL; ComponentLink1URL: http://www.we-online.com; ComponentLink2Description: Datasheet; ComponentLink2URL: http://www.we-online.de/katalog/media/pdf/74404300047.pdf
footprint WE-TPC-4828-MH (SMD Inductor, 2-Leads, Body 4.8x4.8x3.0 mm)
pins: 1, 2

## 74404300082
designator L?
SMD Shielded Tiny Power Inductor WE-TPC, L = 0.82 µH; Inductance: 0.82 µH; DatasheetVersion: ver 6, Aug-2010; PackageVersion: 2010; PackageReference: WE-TPC-4828-MH; PackageDescription: SMD Inductor, 2-Leads, Body 4.8 x 4.8 mm; ComponentLink1Description: Manufacturer URL; ComponentLink1URL: http://www.we-online.com; ComponentLink2Description: Datasheet; ComponentLink2URL: http://www.we-online.de/katalog/media/pdf/74404300082.pdf
footprint WE-TPC-4828-MH (SMD Inductor, 2-Leads, Body 4.8x4.8x3.0 mm)
pins: 1, 2

## 74406800024
designator L?
SMD Shielded Tiny Power Inductor WE-TPC, L = 0.24 µH; Inductance: 0.24 µH; DatasheetVersion: ver 1, Apr-2009; PackageVersion: 2009; PackageReference: WE-TPC-8012; PackageDescription: SMD Inductor, 2-Leads, Body 8.0 x 8.0 mm; ComponentLink1Description: Manufacturer URL; ComponentLink1URL: http://www.we-online.com; ComponentLink2Description: Datasheet; ComponentLink2URL: http://www.we-online.de/katalog/media/pdf/74406800024.pdf
footprint WE-TPC-8012 (SMD Inductor, 2-Leads, Body 8.0x8.0x1.2 mm)
part A pins: 1, 2
part B pins: 3 NC, 4 NC

## 74406800056
designator L?
SMD Shielded Tiny Power Inductor WE-TPC, L = 0.56 µH; Inductance: 0.56 µH; DatasheetVersion: ver 1, Apr-2009; PackageVersion: 2009; PackageReference: WE-TPC-8012; PackageDescription: SMD Inductor, 2-Leads, Body 8.0 x 8.0 mm; ComponentLink1Description: Manufacturer URL; ComponentLink1URL: http://www.we-online.com; ComponentLink2Description: Datasheet; ComponentLink2URL: http://www.we-online.de/katalog/media/pdf/74406800056.pdf
footprint WE-TPC-8012 (SMD Inductor, 2-Leads, Body 8.0x8.0x1.2 mm)
part A pins: 1, 2
part B pins: 3 NC, 4 NC

## 74406900022
designator L?
SMD Shielded Tiny Power Inductor WE-TPC, L = 0.22 µH; Inductance: 0.22 µH; DatasheetVersion: ver 1, Apr-2009; PackageVersion: 2009; PackageReference: WE-TPC-8015; PackageDescription: SMD Inductor, 2-Leads, Body 8.0 x 8.0 mm; ComponentLink1Description: Manufacturer URL; ComponentLink1URL: http://www.we-online.com; ComponentLink2Description: Datasheet; ComponentLink2URL: http://www.we-online.de/katalog/media/pdf/74406900022.pdf
footprint WE-TPC-8015 (SMD Inductor, 2-Leads, Body 8.0x8.0x1.5 mm)
part A pins: 1, 2
part B pins: 3 NC, 4 NC

## 74406900052
designator L?
SMD Shielded Tiny Power Inductor WE-TPC, L = 0.52 µH; Inductance: 0.52 µH; DatasheetVersion: ver 1, Apr-2009; PackageVersion: 2009; PackageReference: WE-TPC-8015; PackageDescription: SMD Inductor, 2-Leads, Body 8.0 x 8.0 mm; ComponentLink1Description: Manufacturer URL; ComponentLink1URL: http://www.we-online.com; ComponentLink2Description: Datasheet; ComponentLink2URL: http://www.we-online.de/katalog/media/pdf/74406900052.pdf
footprint WE-TPC-8015 (SMD Inductor, 2-Leads, Body 8.0x8.0x1.5 mm)
part A pins: 1, 2
part B pins: 3 NC, 4 NC

## 74407000018
designator L?
SMD Shielded Tiny Power Inductor WE-TPC, L = 0.18 µH; Inductance: 0.18 µH; DatasheetVersion: ver 4, Apr-2009; PackageVersion: 2009; PackageReference: WE-TPC-8020-XMH; PackageDescription: SMD Inductor, 2-Leads, Body 8.0 x 8.0 mm; ComponentLink1Description: Manufacturer URL; ComponentLink1URL: http://www.we-online.com; ComponentLink2Description: Datasheet; ComponentLink2URL: http://www.we-online.de/katalog/media/pdf/74407000018.pdf
footprint WE-TPC-8020-XMH (SMD Inductor, 2-Leads, Body 8.0x8.0x2.0 mm)
part A pins: 1, 2
part B pins: 3 NC, 4 NC

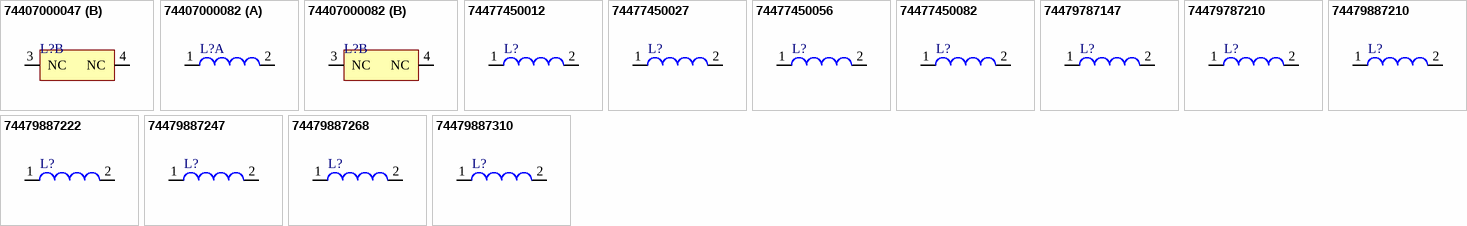
[diagram p22: symbols 74407000047 to 74479887310]

## 74407000047
designator L?
SMD Shielded Tiny Power Inductor WE-TPC, L = 0.47 µH; Inductance: 0.47 µH; DatasheetVersion: ver 4, Apr-2009; PackageVersion: 2009; PackageReference: WE-TPC-8020-XMH; PackageDescription: SMD Inductor, 2-Leads, Body 8.0 x 8.0 mm; ComponentLink1Description: Manufacturer URL; ComponentLink1URL: http://www.we-online.com; ComponentLink2Description: Datasheet; ComponentLink2URL: http://www.we-online.de/katalog/media/pdf/74407000047.pdf
footprint WE-TPC-8020-XMH (SMD Inductor, 2-Leads, Body 8.0x8.0x2.0 mm)
part A pins: 1, 2
part B pins: 3 NC, 4 NC

## 74407000082
designator L?
SMD Shielded Tiny Power Inductor WE-TPC, L = 0.82 µH; Inductance: 0.82 µH; DatasheetVersion: ver 4, Apr-2009; PackageVersion: 2009; PackageReference: WE-TPC-8020-XMH; PackageDescription: SMD Inductor, 2-Leads, Body 8.0 x 8.0 mm; ComponentLink1Description: Manufacturer URL; ComponentLink1URL: http://www.we-online.com; ComponentLink2Description: Datasheet; ComponentLink2URL: http://www.we-online.de/katalog/media/pdf/74407000082.pdf
footprint WE-TPC-8020-XMH (SMD Inductor, 2-Leads, Body 8.0x8.0x2.0 mm)
part A pins: 1, 2
part B pins: 3 NC, 4 NC

## 74477450012
designator L?
SMD Power Inductor WE-PD2, L = 0.12 µH; Inductance: 0.12 µH; DatasheetVersion: ver 2, May-2009; PackageVersion: 2009; PackageReference: WE-PD2-MS; PackageDescription: SMD Inductor, 2-Leads, Body 5.8 x 5.2 mm; ComponentLink1Description: Manufacturer URL; ComponentLink1URL: http://www.we-online.com; ComponentLink2Description: Datasheet; ComponentLink2URL: http://www.we-online.de/katalog/media/pdf/74477450012.pdf
footprint WE-PD2-MS (SMD Inductor, 2-Leads, Body 5.8x5.2x2.3 mm)
pins: 1, 2

## 74477450027
designator L?
SMD Power Inductor WE-PD2, L = 0.27 µH; Inductance: 0.27 µH; DatasheetVersion: ver 2, May-2009; PackageVersion: 2009; PackageReference: WE-PD2-MS; PackageDescription: SMD Inductor, 2-Leads, Body 5.8 x 5.2 mm; ComponentLink1Description: Manufacturer URL; ComponentLink1URL: http://www.we-online.com; ComponentLink2Description: Datasheet; ComponentLink2URL: http://www.we-online.de/katalog/media/pdf/74477450027.pdf
footprint WE-PD2-MS (SMD Inductor, 2-Leads, Body 5.8x5.2x2.3 mm)
pins: 1, 2

## 74477450056
designator L?
SMD Power Inductor WE-PD2, L = 0.56 µH; Inductance: 0.56 µH; DatasheetVersion: ver 2, May-2009; PackageVersion: 2009; PackageReference: WE-PD2-MS; PackageDescription: SMD Inductor, 2-Leads, Body 5.8 x 5.2 mm; ComponentLink1Description: Manufacturer URL; ComponentLink1URL: http://www.we-online.com; ComponentLink2Description: Datasheet; ComponentLink2URL: http://www.we-online.de/katalog/media/pdf/74477450056.pdf
footprint WE-PD2-MS (SMD Inductor, 2-Leads, Body 5.8x5.2x2.3 mm)
pins: 1, 2

## 74477450082
designator L?
SMD Power Inductor WE-PD2, L = 0.82 µH; Inductance: 0.82 µH; DatasheetVersion: ver 2, May-2009; PackageVersion: 2009; PackageReference: WE-PD2-MS; PackageDescription: SMD Inductor, 2-Leads, Body 5.8 x 5.2 mm; ComponentLink1Description: Manufacturer URL; ComponentLink1URL: http://www.we-online.com; ComponentLink2Description: Datasheet; ComponentLink2URL: http://www.we-online.de/katalog/media/pdf/74477450082.pdf
footprint WE-PD2-MS (SMD Inductor, 2-Leads, Body 5.8x5.2x2.3 mm)
pins: 1, 2

## 74479787147
designator L?
Power Multilayer Inductor WE-PMI, L = 0.47 µH; Inductance: 0.47 µH; DatasheetVersion: ver 2, Jan-2008; PackageVersion: 2008; PackageReference: SMD-1008; PackageDescription: Chip Inductor, 2-Leads, Body 2.5 x 2.0 mm; ComponentLink1Description: Manufacturer URL; ComponentLink1URL: http://www.we-online.com; ComponentLink2Description: Datasheet; ComponentLink2URL: http://www.we-online.de/katalog/media/pdf/74479787147.pdf
footprint SMD-1008 (Chip Inductor, 2-Leads, Body 2.5x2.0x1.1 mm)
pins: 1, 2

## 74479787210
designator L?
Power Multilayer Inductor WE-PMI, L = 1.00 µH; Inductance: 1.00 µH; DatasheetVersion: ver 2, Jan-2008; PackageVersion: 2008; PackageReference: SMD-1008; PackageDescription: Chip Inductor, 2-Leads, Body 2.5 x 2.0 mm; ComponentLink1Description: Manufacturer URL; ComponentLink1URL: http://www.we-online.com; ComponentLink2Description: Datasheet; ComponentLink2URL: http://www.we-online.de/katalog/media/pdf/74479787210.pdf
footprint SMD-1008 (Chip Inductor, 2-Leads, Body 2.5x2.0x1.1 mm)
pins: 1, 2

## 74479887210
designator L?
Power Multilayer Inductor WE-PMI, L = 1.00 µH; Inductance: 1.00 µH; DatasheetVersion: ver 2, Jun-2009; PackageVersion: 2008; PackageReference: SMD-1008; PackageDescription: Chip Inductor, 2-Leads, Body 2.5 x 2.0 mm; ComponentLink1Description: Manufacturer URL; ComponentLink1URL: http://www.we-online.com; ComponentLink2Description: Datasheet; ComponentLink2URL: http://www.we-online.de/katalog/media/pdf/74479887210.pdf
footprint SMD-1008 (Chip Inductor, 2-Leads, Body 2.5x2.0x1.1 mm)
pins: 1, 2

## 74479887222
designator L?
Power Multilayer Inductor WE-PMI, L = 2.20 µH; Inductance: 2.2 µH; DatasheetVersion: ver 2, Jun-2009; PackageVersion: 2008; PackageReference: SMD-1008; PackageDescription: Chip Inductor, 2-Leads, Body 2.5 x 2.0 mm; ComponentLink1Description: Manufacturer URL; ComponentLink1URL: http://www.we-online.com; ComponentLink2Description: Datasheet; ComponentLink2URL: http://www.we-online.de/katalog/media/pdf/74479887222.pdf
footprint SMD-1008 (Chip Inductor, 2-Leads, Body 2.5x2.0x1.1 mm)
pins: 1, 2

## 74479887247
designator L?
Power Multilayer Inductor WE-PMI, L = 4.70 µH; Inductance: 4.70 µH; DatasheetVersion: ver 2, Jun-2009; PackageVersion: 2008; PackageReference: SMD-1008; PackageDescription: Chip Inductor, 2-Leads, Body 2.5 x 2.0 mm; ComponentLink1Description: Manufacturer URL; ComponentLink1URL: http://www.we-online.com; ComponentLink2Description: Datasheet; ComponentLink2URL: http://www.we-online.de/katalog/media/pdf/74479887247.pdf
footprint SMD-1008 (Chip Inductor, 2-Leads, Body 2.5x2.0x1.1 mm)
pins: 1, 2

## 74479887268
designator L?
Power Multilayer Inductor WE-PMI, L = 6.80 µH; Inductance: 6.80 µH; DatasheetVersion: ver 2, Jun-2009; PackageVersion: 2008; PackageReference: SMD-1008; PackageDescription: Chip Inductor, 2-Leads, Body 2.5 x 2.0 mm; ComponentLink1Description: Manufacturer URL; ComponentLink1URL: http://www.we-online.com; ComponentLink2Description: Datasheet; ComponentLink2URL: http://www.we-online.de/katalog/media/pdf/74479887268.pdf
footprint SMD-1008 (Chip Inductor, 2-Leads, Body 2.5x2.0x1.1 mm)
pins: 1, 2

## 74479887310
designator L?
Power Multilayer Inductor WE-PMI, L = 10.00 µH; DatasheetVersion: ver 3, Aug-2009; PackageVersion: 2008; PackageReference: SMD-1008; PackageDescription: Chip Inductor, 2-Leads, Body 2.5 x 2.0 mm; Inductance: 10.00 µH; ComponentLink1Description: Manufacturer URL; ComponentLink1URL: http://www.we-online.com; ComponentLink2Description: Datasheet; ComponentLink2URL: http://www.we-online.de/katalog/media/pdf/74479887310.pdf
footprint SMD-1008 (Chip Inductor, 2-Leads, Body 2.5x2.0x1.1 mm)
pins: 1, 2